# Altium integrated library Molex FFC - FPC Connectors (SMT).IntLib: 638 symbols (part 9 of 20)
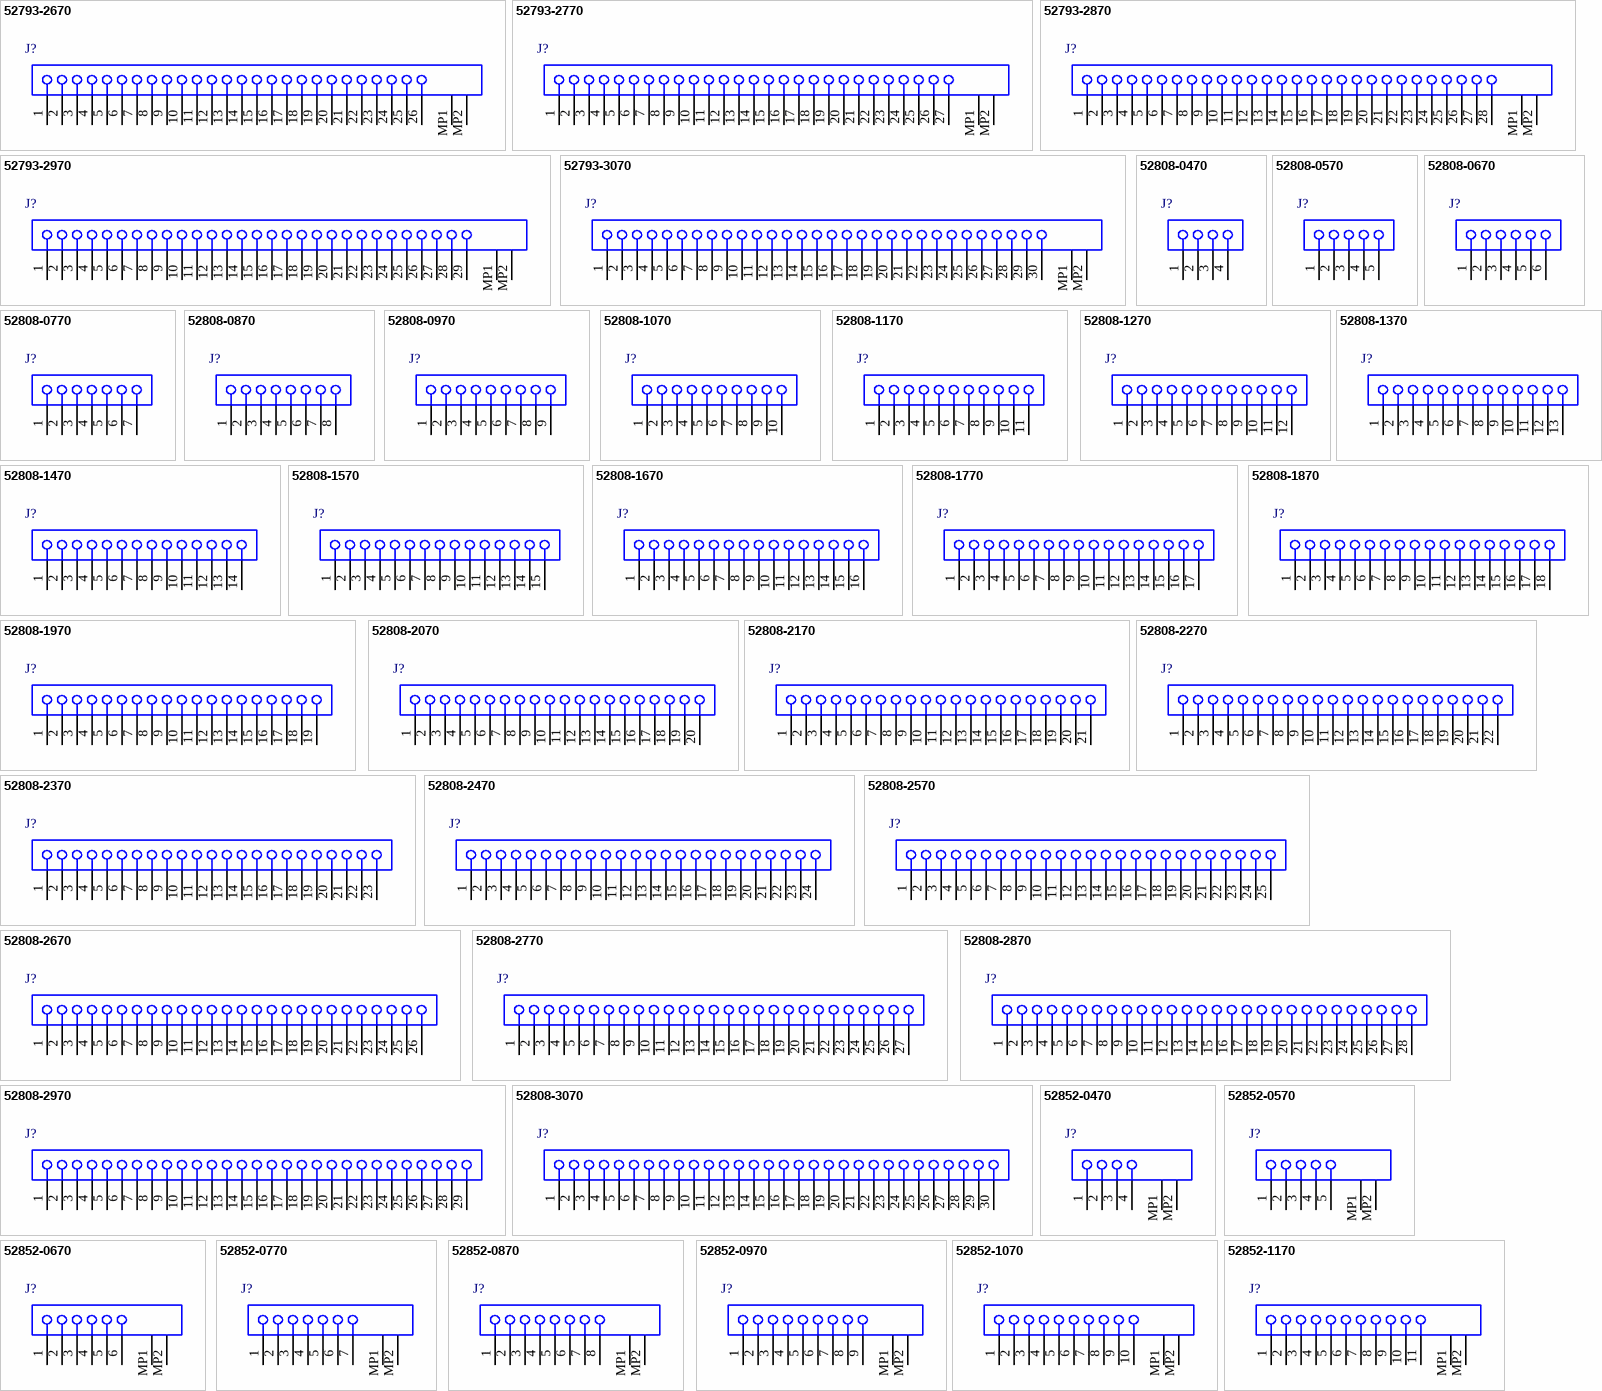
[diagram p29: symbols 52793-2670 to 52852-1170]

## 52808-0570
designator J?
1.0 mm Pitch Easy-On(TM) Type FFC Connector, 5.05 mm Mated Height, Vertical, Non-ZIF, SMT, 5 Circuits, -20 to 80 degC, ELV and RoHS Compliant, Tape and Reel; Manufacturer: Molex; PartNumber: 52808-0570; Circuits (Loaded): 5; Current (Max per Contact): 0.5A; Durability (mating cycles max): 10; Mated Height: 5.05mm; Material - Metal: Phosphor Bronze; Material - Plating Mating: Tin-Bismuth; PCB Locator: No; PCB Retention: None; Pitch - Mating Interface: 1.00mm; Voltage (Max): 125V AC (RMS)/DC; PackageVersion: Rev. B, 01/2014; PackageReference: 52808-0570; PackageDescription: 5-Lead FFC Connector, Pitch 1.0 mm; Circuits (maximum): 5; Contact Position: N/A; Entry Angle: Vertical; Material - Plating Termination: Tin-Bismuth; Number of Rows: 1; Orientation: Vertical; Packing: Tape and Reel; Pitch - Termination Interface: 1.00mm; Polarized to PCB: No; RoHS: TRUE; Stackable: No; Mounting Technology: Surface Mount; ComponentLink1Description: Manufacturer URL; ComponentLink1URL: http://www.molex.com/molex/index.jsp; ComponentLink2Description: Datasheet; ComponentLink2URL: http://www.molex.com/webdocs/datasheets/pdf/en-us/0528080570_FFC_FPC_CONNECTORS.pdf; ComponentLink3Description: Package Specification; ComponentLink3URL: http://www.molex.com/pdm_docs/sd/528080570_sd.pdf
footprint MOLX-52808-0570 (FFC Connector, 5-Leads, Vertical, Pitch 1.0 mm, Mated Height 5.05 mm, SMT)
pins: 1, 2, 3, 4, 5

## 52808-0670
designator J?
1.0 mm Pitch Easy-On(TM) Type FFC Connector, 5.05 mm Mated Height, Vertical, Non-ZIF, SMT, 6 Circuits, -20 to 80 degC, ELV and RoHS Compliant, Tape and Reel; Manufacturer: Molex; PartNumber: 52808-0670; Circuits (Loaded): 6; Current (Max per Contact): 0.5A; Durability (mating cycles max): 10; Mated Height: 5.05mm; Material - Metal: Phosphor Bronze; Material - Plating Mating: Tin-Bismuth; PCB Locator: No; PCB Retention: None; Pitch - Mating Interface: 1.00mm; Voltage (Max): 125V AC (RMS)/DC; PackageVersion: Rev. B, 01/2014; PackageReference: 52808-0670; PackageDescription: 6-Lead FFC Connector, Pitch 1.0 mm; Circuits (maximum): 6; Contact Position: N/A; Entry Angle: Vertical; Material - Plating Termination: Tin-Bismuth; Number of Rows: 1; Orientation: Vertical; Packing: Tape and Reel; Pitch - Termination Interface: 1.00mm; Polarized to PCB: No; RoHS: TRUE; Stackable: No; Mounting Technology: Surface Mount; ComponentLink1Description: Manufacturer URL; ComponentLink1URL: http://www.molex.com/molex/index.jsp; ComponentLink2Description: Datasheet; ComponentLink2URL: http://www.molex.com/webdocs/datasheets/pdf/en-us/0528080670_FFC_FPC_CONNECTORS.pdf; ComponentLink3Description: Package Specification; ComponentLink3URL: http://www.molex.com/pdm_docs/sd/528080670_sd.pdf
footprint MOLX-52808-0670 (FFC Connector, 6-Leads, Vertical, Pitch 1.0 mm, Mated Height 5.05 mm, SMT)
pins: 1, 2, 3, 4, 5, 6

## 52808-0770
designator J?
1.0 mm Pitch Easy-On(TM) Type FFC Connector, 5.05 mm Mated Height, Vertical, Non-ZIF, SMT, 7 Circuits, -20 to 80 degC, ELV and RoHS Compliant, Tape and Reel; Manufacturer: Molex; PartNumber: 52808-0770; Circuits (Loaded): 7; Current (Max per Contact): 0.5A; Durability (mating cycles max): 10; Mated Height: 5.05mm; Material - Metal: Phosphor Bronze; Material - Plating Mating: Tin-Bismuth; PCB Locator: No; PCB Retention: None; Pitch - Mating Interface: 1.00mm; Voltage (Max): 125V AC (RMS)/DC; PackageVersion: Rev. B, 01/2014; PackageReference: 52808-0770; PackageDescription: 7-Lead FFC Connector, Pitch 1.0 mm; Circuits (maximum): 7; Contact Position: N/A; Entry Angle: Vertical; Material - Plating Termination: Tin-Bismuth; Number of Rows: 1; Orientation: Vertical; Packing: Tape and Reel; Pitch - Termination Interface: 1.00mm; Polarized to PCB: No; RoHS: TRUE; Stackable: No; Mounting Technology: Surface Mount; ComponentLink1Description: Manufacturer URL; ComponentLink1URL: http://www.molex.com/molex/index.jsp; ComponentLink2Description: Datasheet; ComponentLink2URL: http://www.molex.com/webdocs/datasheets/pdf/en-us/0528080770_FFC_FPC_CONNECTORS.pdf; ComponentLink3Description: Package Specification; ComponentLink3URL: http://www.molex.com/pdm_docs/sd/528080770_sd.pdf
footprint MOLX-52808-0770 (FFC Connector, 7-Leads, Vertical, Pitch 1.0 mm, Mated Height 5.05 mm, SMT)
pins: 1, 2, 3, 4, 5, 6, 7

## 52808-0870
designator J?
1.0 mm Pitch Easy-On(TM) Type FFC Connector, 5.05 mm Mated Height, Vertical, Non-ZIF, SMT, 8 Circuits, -20 to 80 degC, ELV and RoHS Compliant, Tape and Reel; Manufacturer: Molex; PartNumber: 52808-0870; Circuits (Loaded): 8; Current (Max per Contact): 0.5A; Durability (mating cycles max): 10; Mated Height: 5.05mm; Material - Metal: Phosphor Bronze; Material - Plating Mating: Tin-Bismuth; PCB Locator: No; PCB Retention: None; Pitch - Mating Interface: 1.00mm; Voltage (Max): 125V AC (RMS)/DC; PackageVersion: Rev. B, 01/2014; PackageReference: 52808-0870; PackageDescription: 8-Lead FFC Connector, Pitch 1.0 mm; Circuits (maximum): 8; Contact Position: N/A; Entry Angle: Vertical; Material - Plating Termination: Tin-Bismuth; Number of Rows: 1; Orientation: Vertical; Packing: Tape and Reel; Pitch - Termination Interface: 1.00mm; Polarized to PCB: No; RoHS: TRUE; Stackable: No; Mounting Technology: Surface Mount; ComponentLink1Description: Manufacturer URL; ComponentLink1URL: http://www.molex.com/molex/index.jsp; ComponentLink2Description: Datasheet; ComponentLink2URL: http://www.molex.com/webdocs/datasheets/pdf/en-us/0528080870_FFC_FPC_CONNECTORS.pdf; ComponentLink3Description: Package Specification; ComponentLink3URL: http://www.molex.com/pdm_docs/sd/528080870_sd.pdf
footprint MOLX-52808-0870 (FFC Connector, 8-Leads, Vertical, Pitch 1.0 mm, Mated Height 5.05 mm, SMT)
pins: 1, 2, 3, 4, 5, 6, 7, 8

## 52808-0970
designator J?
1.0 mm Pitch Easy-On(TM) Type FFC Connector, 5.05 mm Mated Height, Vertical, Non-ZIF, SMT, 9 Circuits, -20 to 80 degC, ELV and RoHS Compliant, Tape and Reel; Manufacturer: Molex; PartNumber: 52808-0970; Circuits (Loaded): 9; Current (Max per Contact): 0.5A; Durability (mating cycles max): 10; Mated Height: 5.05mm; Material - Metal: Phosphor Bronze; Material - Plating Mating: Tin-Bismuth; PCB Locator: No; PCB Retention: None; Pitch - Mating Interface: 1.00mm; Voltage (Max): 125V AC (RMS)/DC; PackageVersion: Rev. B, 01/2014; PackageReference: 52808-0970; PackageDescription: 9-Lead FFC Connector, Pitch 1.0 mm; Circuits (maximum): 9; Contact Position: N/A; Entry Angle: Vertical; Material - Plating Termination: Tin-Bismuth; Number of Rows: 1; Orientation: Vertical; Packing: Tape and Reel; Pitch - Termination Interface: 1.00mm; Polarized to PCB: No; RoHS: TRUE; Stackable: No; Mounting Technology: Surface Mount; ComponentLink1Description: Manufacturer URL; ComponentLink1URL: http://www.molex.com/molex/index.jsp; ComponentLink2Description: Datasheet; ComponentLink2URL: http://www.molex.com/webdocs/datasheets/pdf/en-us/0528080970_FFC_FPC_CONNECTORS.pdf; ComponentLink3Description: Package Specification; ComponentLink3URL: http://www.molex.com/pdm_docs/sd/528080970_sd.pdf
footprint MOLX-52808-0970 (FFC Connector, 9-Leads, Vertical, Pitch 1.0 mm, Mated Height 5.05 mm, SMT)
pins: 1, 2, 3, 4, 5, 6, 7, 8, 9

## 52808-1070
designator J?
1.0 mm Pitch Easy-On(TM) Type FFC Connector, 5.05 mm Mated Height, Vertical, Non-ZIF, SMT, 10 Circuits, -20 to 80 degC, ELV and RoHS Compliant, Tape and Reel; Manufacturer: Molex; PartNumber: 52808-1070; Circuits (Loaded): 10; Current (Max per Contact): 0.5A; Mated Height: 5.05mm; Material - Metal: Phosphor Bronze; Material - Plating Mating: Tin-Bismuth; PCB Locator: No; PCB Retention: None; Pitch - Mating Interface: 1.00mm; Voltage (Max): 125V AC (RMS)/DC; PackageVersion: Rev. B, 01/2014; PackageReference: 52808-1070; PackageDescription: 10-Lead FFC Connector, Pitch 1.0 mm; Circuits (maximum): 10; Contact Position: N/A; Durability (mating cycles max): 10; Entry Angle: Vertical; Material - Plating Termination: Tin-Bismuth; Number of Rows: 1; Orientation: Vertical; Packing: Tape and Reel; Pitch - Termination Interface: 1.00mm; Polarized to PCB: No; RoHS: TRUE; Stackable: No; Mounting Technology: Surface Mount; ComponentLink1Description: Manufacturer URL; ComponentLink1URL: http://www.molex.com/molex/index.jsp; ComponentLink2Description: Datasheet; ComponentLink2URL: http://www.molex.com/webdocs/datasheets/pdf/en-us/0528081070_FFC_FPC_CONNECTORS.pdf; ComponentLink3Description: Package Specification; ComponentLink3URL: http://www.molex.com/pdm_docs/sd/528081070_sd.pdf
footprint MOLX-52808-1070 (FFC Connector, 10-Leads, Vertical, Pitch 1.0 mm, Mated Height 5.05 mm, SMT)
pins: 1, 2, 3, 4, 5, 6, 7, 8, 9, 10

## 52808-1170
designator J?
1.0 mm Pitch Easy-On(TM) Type FFC Connector, 5.05 mm Mated Height, Vertical, Non-ZIF, SMT, 11 Circuits, -20 to 80 degC, ELV and RoHS Compliant, Tape and Reel; Manufacturer: Molex; PartNumber: 52808-1170; Circuits (Loaded): 11; Current (Max per Contact): 0.5A; Durability (mating cycles max): 10; Mated Height: 5.05mm; Material - Metal: Phosphor Bronze; Material - Plating Mating: Tin-Bismuth; PCB Locator: No; PCB Retention: None; Pitch - Mating Interface: 1.00mm; Voltage (Max): 125V AC (RMS)/DC; PackageVersion: Rev. B, 01/2014; PackageReference: 52808-1170; PackageDescription: 11-Lead FFC Connector, Pitch 1.0 mm; Circuits (maximum): 11; Contact Position: N/A; Entry Angle: Vertical; Material - Plating Termination: Tin-Bismuth; Number of Rows: 1; Orientation: Vertical; Packing: Tape and Reel; Pitch - Termination Interface: 1.00mm; Polarized to PCB: No; RoHS: TRUE; Stackable: No; Mounting Technology: Surface Mount; ComponentLink1Description: Manufacturer URL; ComponentLink1URL: http://www.molex.com/molex/index.jsp; ComponentLink2Description: Datasheet; ComponentLink2URL: http://www.molex.com/webdocs/datasheets/pdf/en-us/0528081170_FFC_FPC_CONNECTORS.pdf; ComponentLink3Description: Package Specification; ComponentLink3URL: http://www.molex.com/pdm_docs/sd/528081170_sd.pdf
footprint MOLX-52808-1170 (FFC Connector, 11-Leads, Vertical, Pitch 1.0 mm, Mated Height 5.05 mm, SMT)
pins: 1, 2, 3, 4, 5, 6, 7, 8, 9, 10, 11

## 52808-1270
designator J?
1.0 mm Pitch Easy-On(TM) Type FFC Connector, 5.05 mm Mated Height, Vertical, Non-ZIF, SMT, 12 Circuits, -20 to 80 degC, ELV and RoHS Compliant, Tape and Reel; Manufacturer: Molex; PartNumber: 52808-1270; Circuits (Loaded): 12; Current (Max per Contact): 0.5A; Durability (mating cycles max): 10; Mated Height: 5.05mm; Material - Metal: Phosphor Bronze; Material - Plating Mating: Tin-Bismuth; PCB Locator: No; PCB Retention: None; Pitch - Mating Interface: 1.00mm; Voltage (Max): 125V AC (RMS)/DC; PackageVersion: Rev. B, 01/2014; PackageReference: 52808-1270; PackageDescription: 12-Lead FFC Connector, Pitch 1.0 mm; Circuits (maximum): 12; Contact Position: N/A; Entry Angle: Vertical; Material - Plating Termination: Tin-Bismuth; Number of Rows: 1; Orientation: Vertical; Packing: Tape and Reel; Pitch - Termination Interface: 1.00mm; Polarized to PCB: No; RoHS: TRUE; Stackable: No; Mounting Technology: Surface Mount; ComponentLink1Description: Manufacturer URL; ComponentLink1URL: http://www.molex.com/molex/index.jsp; ComponentLink2Description: Datasheet; ComponentLink2URL: http://www.molex.com/webdocs/datasheets/pdf/en-us/0528081170_FFC_FPC_CONNECTORS.pdf; ComponentLink3Description: Package Specification; ComponentLink3URL: http://www.molex.com/pdm_docs/sd/528081270_sd.pdf
footprint MOLX-52808-1270 (FFC Connector, 12-Leads, Vertical, Pitch 1.0 mm, Mated Height 5.05 mm, SMT)
pins: 1, 2, 3, 4, 5, 6, 7, 8, 9, 10, 11, 12

## 52808-1370
designator J?
1.0 mm Pitch Easy-On(TM) Type FFC Connector, 5.05 mm Mated Height, Vertical, Non-ZIF, SMT, 13 Circuits, -20 to 80 degC, ELV and RoHS Compliant, Tape and Reel; Manufacturer: Molex; PartNumber: 52808-1370; Circuits (Loaded): 13; Current (Max per Contact): 0.5A; Durability (mating cycles max): 10; Mated Height: 5.05mm; Material - Metal: Phosphor Bronze; Material - Plating Mating: Tin-Bismuth; PCB Locator: No; PCB Retention: None; Pitch - Mating Interface: 1.00mm; Voltage (Max): 125V AC (RMS)/DC; PackageVersion: Rev. B, 01/2014; PackageReference: 52808-1370; PackageDescription: 13-Lead FFC Connector, Pitch 1.0 mm; Circuits (maximum): 13; Contact Position: N/A; Entry Angle: Vertical; Material - Plating Termination: Tin-Bismuth; Number of Rows: 1; Orientation: Vertical; Packing: Tape and Reel; Pitch - Termination Interface: 1.00mm; Polarized to PCB: No; RoHS: TRUE; Stackable: No; Mounting Technology: Surface Mount; ComponentLink1Description: Manufacturer URL; ComponentLink1URL: http://www.molex.com/molex/index.jsp; ComponentLink2Description: Datasheet; ComponentLink2URL: http://www.molex.com/webdocs/datasheets/pdf/en-us/0528081370_FFC_FPC_CONNECTORS.pdf; ComponentLink3Description: Package Specification; ComponentLink3URL: http://www.molex.com/pdm_docs/sd/528081370_sd.pdf
footprint MOLX-52808-1370 (FFC Connector, 13-Leads, Vertical, Pitch 1.0 mm, Mated Height 5.05 mm, SMT)
pins: 1, 2, 3, 4, 5, 6, 7, 8, 9, 10, 11, 12, 13

## 52808-1470
designator J?
1.0 mm Pitch Easy-On(TM) Type FFC Connector, 5.05 mm Mated Height, Vertical, Non-ZIF, SMT, 14 Circuits, -20 to 80 degC, ELV and RoHS Compliant, Tape and Reel; Manufacturer: Molex; PartNumber: 52808-1470; Circuits (Loaded): 14; Current (Max per Contact): 0.5A; Durability (mating cycles max): 10; Mated Height: 5.05mm; Material - Metal: Phosphor Bronze; Material - Plating Mating: Tin-Bismuth; PCB Locator: No; PCB Retention: None; Pitch - Mating Interface: 1.00mm; Voltage (Max): 125V AC (RMS)/DC; PackageVersion: Rev. B, 01/2014; PackageReference: 52808-1470; PackageDescription: 14-Lead FFC Connector, Pitch 1.0 mm; Circuits (maximum): 14; Contact Position: N/A; Entry Angle: Vertical; Material - Plating Termination: Tin-Bismuth; Number of Rows: 1; Orientation: Vertical; Packing: Tape and Reel; Pitch - Termination Interface: 1.00mm; Polarized to PCB: No; RoHS: TRUE; Stackable: No; Mounting Technology: Surface Mount; ComponentLink1Description: Manufacturer URL; ComponentLink1URL: http://www.molex.com/molex/index.jsp; ComponentLink2Description: Datasheet; ComponentLink2URL: http://www.molex.com/webdocs/datasheets/pdf/en-us/0528081470_FFC_FPC_CONNECTORS.pdf; ComponentLink3Description: Package Specification; ComponentLink3URL: http://www.molex.com/pdm_docs/sd/528081470_sd.pdf
footprint MOLX-52808-1470 (FFC Connector, 14-Leads, Vertical, Pitch 1.0 mm, Mated Height 5.05 mm, SMT)
pins: 1, 2, 3, 4, 5, 6, 7, 8, 9, 10, 11, 12, 13, 14

## 52808-1570
designator J?
1.0 mm Pitch Easy-On(TM) Type FFC Connector, 5.05 mm Mated Height, Vertical, Non-ZIF, SMT, 15 Circuits, -20 to 80 degC, ELV and RoHS Compliant, Tape and Reel; Manufacturer: Molex; PartNumber: 52808-1570; Circuits (Loaded): 15; Current (Max per Contact): 0.5A; Durability (mating cycles max): 10; Mated Height: 5.05mm; Material - Metal: Phosphor Bronze; Material - Plating Mating: Tin-Bismuth; PCB Locator: No; PCB Retention: None; Pitch - Mating Interface: 1.00mm; Voltage (Max): 125V AC (RMS)/DC; PackageVersion: Rev. B, 01/2014; PackageReference: 52808-1570; PackageDescription: 15-Lead FFC Connector, Pitch 1.0 mm; Circuits (maximum): 15; Contact Position: N/A; Entry Angle: Vertical; Material - Plating Termination: Tin-Bismuth; Number of Rows: 1; Orientation: Vertical; Packing: Tape and Reel; Pitch - Termination Interface: 1.00mm; Polarized to PCB: No; RoHS: TRUE; Stackable: No; Mounting Technology: Surface Mount; ComponentLink1Description: Manufacturer URL; ComponentLink1URL: http://www.molex.com/molex/index.jsp; ComponentLink2Description: Datasheet; ComponentLink2URL: http://www.molex.com/webdocs/datasheets/pdf/en-us/0528081570_FFC_FPC_CONNECTORS.pdf; ComponentLink3Description: Package Specification; ComponentLink3URL: http://www.molex.com/pdm_docs/sd/528081570_sd.pdf
footprint MOLX-52808-1570 (FFC Connector, 15-Leads, Vertical, Pitch 1.0 mm, Mated Height 5.05 mm, SMT)
pins: 1, 2, 3, 4, 5, 6, 7, 8, 9, 10, 11, 12, 13, 14, 15

## 52808-1670
designator J?
1.0 mm Pitch Easy-On(TM) Type FFC Connector, 5.05 mm Mated Height, Vertical, Non-ZIF, SMT, 16 Circuits, -20 to 80 degC, ELV and RoHS Compliant, Tape and Reel; Manufacturer: Molex; PartNumber: 52808-1670; Circuits (Loaded): 16; Current (Max per Contact): 0.5A; Durability (mating cycles max): 10; Mated Height: 5.05mm; Material - Metal: Phosphor Bronze; Material - Plating Mating: Tin-Bismuth; PCB Locator: No; PCB Retention: None; Pitch - Mating Interface: 1.00mm; Voltage (Max): 125V AC (RMS)/DC; PackageVersion: Rev. B, 01/2014; PackageReference: 52808-1670; PackageDescription: 16-Lead FFC Connector, Pitch 1.0 mm; Circuits (maximum): 16; Contact Position: N/A; Entry Angle: Vertical; Material - Plating Termination: Tin-Bismuth; Number of Rows: 1; Orientation: Vertical; Packing: Tape and Reel; Pitch - Termination Interface: 1.00mm; Polarized to PCB: No; RoHS: TRUE; Stackable: No; Mounting Technology: Surface Mount; ComponentLink1Description: Manufacturer URL; ComponentLink1URL: http://www.molex.com/molex/index.jsp; ComponentLink2Description: Datasheet; ComponentLink2URL: http://www.molex.com/webdocs/datasheets/pdf/en-us/0528081670_FFC_FPC_CONNECTORS.pdf; ComponentLink3Description: Package Specification; ComponentLink3URL: http://www.molex.com/pdm_docs/sd/528081670_sd.pdf
footprint MOLX-52808-1670 (FFC Connector, 16-Leads, Vertical, Pitch 1.0 mm, Mated Height 5.05 mm, SMT)
pins: 1, 2, 3, 4, 5, 6, 7, 8, 9, 10, 11, 12, 13, 14, 15, 16

## 52808-1770
designator J?
1.0 mm Pitch Easy-On(TM) Type FFC Connector, 5.05 mm Mated Height, Vertical, Non-ZIF, SMT, 17 Circuits, -20 to 80 degC, ELV and RoHS Compliant, Tape and Reel; Manufacturer: Molex; PartNumber: 52808-1770; Circuits (Loaded): 17; Current (Max per Contact): 0.5A; Durability (mating cycles max): 10; Mated Height: 5.05mm; Material - Metal: Phosphor Bronze; Material - Plating Mating: Tin-Bismuth; PCB Locator: No; PCB Retention: None; Pitch - Mating Interface: 1.00mm; Voltage (Max): 125V AC (RMS)/DC; PackageVersion: Rev. B, 01/2014; PackageReference: 52808-1770; PackageDescription: 17-Lead FFC Connector, Pitch 1.0 mm; Circuits (maximum): 17; Contact Position: N/A; Entry Angle: Vertical; Material - Plating Termination: Tin-Bismuth; Number of Rows: 1; Orientation: Vertical; Packing: Tape and Reel; Pitch - Termination Interface: 1.00mm; Polarized to PCB: No; RoHS: TRUE; Stackable: No; Mounting Technology: Surface Mount; ComponentLink1Description: Manufacturer URL; ComponentLink1URL: http://www.molex.com/molex/index.jsp; ComponentLink2Description: Datasheet; ComponentLink2URL: http://www.molex.com/webdocs/datasheets/pdf/en-us/0528081770_FFC_FPC_CONNECTORS.pdf; ComponentLink3Description: Package Specification; ComponentLink3URL: http://www.molex.com/pdm_docs/sd/528081770_sd.pdf
footprint MOLX-52808-1770 (FFC Connector, 17-Leads, Vertical, Pitch 1.0 mm, Mated Height 5.05 mm, SMT)
pins: 1, 2, 3, 4, 5, 6, 7, 8, 9, 10, 11, 12, 13, 14, 15, 16, 17

## 52808-1870
designator J?
1.0 mm Pitch Easy-On(TM) Type FFC Connector, 5.05 mm Mated Height, Vertical, Non-ZIF, SMT, 18 Circuits, -20 to 80 degC, ELV and RoHS Compliant, Tape and Reel; Manufacturer: Molex; PartNumber: 52808-1870; Circuits (Loaded): 18; Current (Max per Contact): 0.5A; Durability (mating cycles max): 10; Mated Height: 5.05mm; Material - Metal: Phosphor Bronze; Material - Plating Mating: Tin-Bismuth; PCB Locator: No; PCB Retention: None; Pitch - Mating Interface: 1.00mm; Voltage (Max): 125V AC (RMS)/DC; PackageVersion: Rev. B, 01/2014; PackageReference: 52808-1870; PackageDescription: 18-Lead FFC Connector, Pitch 1.0 mm; Circuits (maximum): 18; Contact Position: N/A; Entry Angle: Vertical; Material - Plating Termination: Tin-Bismuth; Number of Rows: 1; Orientation: Vertical; Packing: Tape and Reel; Pitch - Termination Interface: 1.00mm; Polarized to PCB: No; RoHS: TRUE; Stackable: No; Mounting Technology: Surface Mount; ComponentLink1Description: Manufacturer URL; ComponentLink1URL: http://www.molex.com/molex/index.jsp; ComponentLink2Description: Datasheet; ComponentLink2URL: http://www.molex.com/webdocs/datasheets/pdf/en-us/0528081870_FFC_FPC_CONNECTORS.pdf; ComponentLink3Description: Package Specification; ComponentLink3URL: http://www.molex.com/pdm_docs/sd/528081870_sd.pdf
footprint MOLX-52808-1870 (FFC Connector, 18-Leads, Vertical, Pitch 1.0 mm, Mated Height 5.05 mm, SMT)
pins: 1, 2, 3, 4, 5, 6, 7, 8, 9, 10, 11, 12, 13, 14, 15, 16, 17, 18

## 52808-1970
designator J?
1.0 mm Pitch Easy-On(TM) Type FFC Connector, 5.05 mm Mated Height, Vertical, Non-ZIF, SMT, 19 Circuits, -20 to 80 degC, ELV and RoHS Compliant, Tape and Reel; Manufacturer: Molex; PartNumber: 52808-1970; Circuits (Loaded): 19; Current (Max per Contact): 0.5A; Durability (mating cycles max): 10; Mated Height: 5.05mm; Material - Metal: Phosphor Bronze; Material - Plating Mating: Tin-Bismuth; PCB Locator: No; PCB Retention: None; Pitch - Mating Interface: 1.00mm; Voltage (Max): 125V AC (RMS)/DC; PackageVersion: Rev. B, 01/2014; PackageReference: 52808-1970; PackageDescription: 19-Lead FFC Connector, Pitch 1.0 mm; Circuits (maximum): 19; Contact Position: N/A; Entry Angle: Vertical; Material - Plating Termination: Tin-Bismuth; Number of Rows: 1; Orientation: Vertical; Packing: Tape and Reel; Pitch - Termination Interface: 1.00mm; Polarized to PCB: No; RoHS: TRUE; Stackable: No; Mounting Technology: Surface Mount; ComponentLink1Description: Manufacturer URL; ComponentLink1URL: http://www.molex.com/molex/index.jsp; ComponentLink2Description: Datasheet; ComponentLink2URL: http://www.molex.com/webdocs/datasheets/pdf/en-us/0528081970_FFC_FPC_CONNECTORS.pdf; ComponentLink3Description: Package Specification; ComponentLink3URL: http://www.molex.com/pdm_docs/sd/528081970_sd.pdf
footprint MOLX-52808-1970 (FFC Connector, 19-Leads, Vertical, Pitch 1.0 mm, Mated Height 5.05 mm, SMT)
pins: 1, 2, 3, 4, 5, 6, 7, 8, 9, 10, 11, 12, 13, 14, 15, 16, 17, 18, 19

## 52808-2070
designator J?
1.0 mm Pitch Easy-On(TM) Type FFC Connector, 5.05 mm Mated Height, Vertical, Non-ZIF, SMT, 20 Circuits, -20 to 80 degC, ELV and RoHS Compliant, Tape and Reel; Manufacturer: Molex; PartNumber: 52808-2070; Circuits (Loaded): 20; Current (Max per Contact): 0.5A; Durability (mating cycles max): 10; Mated Height: 5.05mm; Material - Metal: Phosphor Bronze; Material - Plating Mating: Tin-Bismuth; PCB Locator: No; PCB Retention: None; Pitch - Mating Interface: 1.00mm; Voltage (Max): 125V AC (RMS)/DC; PackageVersion: Rev. B, 01/2014; PackageReference: 52808-2070; PackageDescription: 20-Lead FFC Connector, Pitch 1.0 mm; Circuits (maximum): 20; Contact Position: N/A; Entry Angle: Vertical; Material - Plating Termination: Tin-Bismuth; Number of Rows: 1; Orientation: Vertical; Packing: Tape and Reel; Pitch - Termination Interface: 1.00mm; Polarized to PCB: No; RoHS: TRUE; Stackable: No; Mounting Technology: Surface Mount; ComponentLink1Description: Manufacturer URL; ComponentLink1URL: http://www.molex.com/molex/index.jsp; ComponentLink2Description: Datasheet; ComponentLink2URL: http://www.molex.com/webdocs/datasheets/pdf/en-us/0528082070_FFC_FPC_CONNECTORS.pdf; ComponentLink3Description: Package Specification; ComponentLink3URL: http://www.molex.com/pdm_docs/sd/528082070_sd.pdf
footprint MOLX-52808-2070 (FFC Connector, 20-Leads, Vertical, Pitch 1.0 mm, Mated Height 5.05 mm, SMT)
pins: 1, 2, 3, 4, 5, 6, 7, 8, 9, 10, 11, 12, 13, 14, 15, 16, 17, 18, 19, 20

## 52808-2170
designator J?
1.0 mm Pitch Easy-On(TM) Type FFC Connector, 5.05 mm Mated Height, Vertical, Non-ZIF, SMT, 21 Circuits, -20 to 80 degC, ELV and RoHS Compliant, Tape and Reel; Manufacturer: Molex; PartNumber: 52808-2170; Circuits (Loaded): 21; Current (Max per Contact): 0.5A; Durability (mating cycles max): 10; Mated Height: 5.05mm; Material - Metal: Phosphor Bronze; Material - Plating Mating: Tin-Bismuth; PCB Locator: No; PCB Retention: None; Pitch - Mating Interface: 1.00mm; Voltage (Max): 125V AC (RMS)/DC; PackageVersion: Rev. B, 01/2014; PackageReference: 52808-2170; PackageDescription: 21-Lead FFC Connector, Pitch 1.0 mm; Circuits (maximum): 21; Contact Position: N/A; Entry Angle: Vertical; Material - Plating Termination: Tin-Bismuth; Number of Rows: 1; Orientation: Vertical; Packing: Tape and Reel; Pitch - Termination Interface: 1.00mm; Polarized to PCB: No; RoHS: TRUE; Stackable: No; Mounting Technology: Surface Mount; ComponentLink1Description: Manufacturer URL; ComponentLink1URL: http://www.molex.com/molex/index.jsp; ComponentLink2Description: Datasheet; ComponentLink2URL: http://www.molex.com/webdocs/datasheets/pdf/en-us/0528082170_FFC_FPC_CONNECTORS.pdf; ComponentLink3Description: Package Specification; ComponentLink3URL: http://www.molex.com/pdm_docs/sd/528082170_sd.pdf
footprint MOLX-52808-2170 (FFC Connector, 21-Leads, Vertical, Pitch 1.0 mm, Mated Height 5.05 mm, SMT)
pins: 1, 2, 3, 4, 5, 6, 7, 8, 9, 10, 11, 12, 13, 14, 15, 16, 17, 18, 19, 20, 21

## 52808-2270
designator J?
1.0 mm Pitch Easy-On(TM) Type FFC Connector, 5.05 mm Mated Height, Vertical, Non-ZIF, SMT, 22 Circuits, -20 to 80 degC, ELV and RoHS Compliant, Tape and Reel; Manufacturer: Molex; PartNumber: 52808-2270; Circuits (Loaded): 22; Current (Max per Contact): 0.5A; Durability (mating cycles max): 10; Mated Height: 5.05mm; Material - Metal: Phosphor Bronze; Material - Plating Mating: Tin-Bismuth; PCB Locator: No; PCB Retention: None; Pitch - Mating Interface: 1.00mm; Voltage (Max): 125V AC (RMS)/DC; PackageVersion: Rev. B, 01/2014; PackageReference: 52808-2270; PackageDescription: 22-Lead FFC Connector, Pitch 1.0 mm; Circuits (maximum): 22; Contact Position: N/A; Entry Angle: Vertical; Material - Plating Termination: Tin-Bismuth; Number of Rows: 1; Orientation: Vertical; Packing: Tape and Reel; Pitch - Termination Interface: 1.00mm; Polarized to PCB: No; RoHS: TRUE; Stackable: No; Mounting Technology: Surface Mount; ComponentLink1Description: Manufacturer URL; ComponentLink1URL: http://www.molex.com/molex/index.jsp; ComponentLink2Description: Datasheet; ComponentLink2URL: http://www.molex.com/webdocs/datasheets/pdf/en-us/0528082270_FFC_FPC_CONNECTORS.pdf; ComponentLink3Description: Package Specification; ComponentLink3URL: http://www.molex.com/pdm_docs/sd/528082270_sd.pdf
footprint MOLX-52808-2270 (FFC Connector, 22-Leads, Vertical, Pitch 1.0 mm, Mated Height 5.05 mm, SMT)
pins: 1, 2, 3, 4, 5, 6, 7, 8, 9, 10, 11, 12, 13, 14, 15, 16, 17, 18, 19, 20, 21, 22

## 52808-2370
designator J?
1.0 mm Pitch Easy-On(TM) Type FFC Connector, 5.05 mm Mated Height, Vertical, Non-ZIF, SMT, 23 Circuits, -20 to 80 degC, ELV and RoHS Compliant, Tape and Reel; Manufacturer: Molex; PartNumber: 52808-2370; Circuits (Loaded): 23; Current (Max per Contact): 0.5A; Durability (mating cycles max): 10; Mated Height: 5.05mm; Material - Metal: Phosphor Bronze; Material - Plating Mating: Tin-Bismuth; PCB Locator: No; PCB Retention: None; Pitch - Mating Interface: 1.00mm; Voltage (Max): 125V AC (RMS)/DC; PackageVersion: Rev. B, 01/2014; PackageReference: 52808-2370; PackageDescription: 23-Lead FFC Connector, Pitch 1.0 mm; Circuits (maximum): 23; Contact Position: N/A; Entry Angle: Vertical; Material - Plating Termination: Tin-Bismuth; Number of Rows: 1; Orientation: Vertical; Packing: Tape and Reel; Pitch - Termination Interface: 1.00mm; Polarized to PCB: No; RoHS: TRUE; Stackable: No; Mounting Technology: Surface Mount; ComponentLink1Description: Manufacturer URL; ComponentLink1URL: http://www.molex.com/molex/index.jsp; ComponentLink2Description: Datasheet; ComponentLink2URL: http://www.molex.com/webdocs/datasheets/pdf/en-us/0528082370_FFC_FPC_CONNECTORS.pdf; ComponentLink3Description: Package Specification; ComponentLink3URL: http://www.molex.com/pdm_docs/sd/528082370_sd.pdf
footprint MOLX-52808-2370 (FFC Connector, 23-Leads, Vertical, Pitch 1.0 mm, Mated Height 5.05 mm, SMT)
pins: 1, 2, 3, 4, 5, 6, 7, 8, 9, 10, 11, 12, 13, 14, 15, 16, 17, 18, 19, 20, 21, 22, 23

## 52808-2470
designator J?
1.0 mm Pitch Easy-On(TM) Type FFC Connector, 5.05 mm Mated Height, Vertical, Non-ZIF, SMT, 24 Circuits, -20 to 80 degC, ELV and RoHS Compliant, Tape and Reel; Manufacturer: Molex; PartNumber: 52808-2470; Circuits (Loaded): 24; Current (Max per Contact): 0.5A; Durability (mating cycles max): 10; Mated Height: 5.05mm; Material - Metal: Phosphor Bronze; Material - Plating Mating: Tin-Bismuth; PCB Locator: No; PCB Retention: None; Pitch - Mating Interface: 1.00mm; Voltage (Max): 125V AC (RMS)/DC; PackageVersion: Rev. B, 01/2014; PackageReference: 52808-2470; PackageDescription: 24-Lead FFC Connector, Pitch 1.0 mm; Circuits (maximum): 24; Contact Position: N/A; Entry Angle: Vertical; Material - Plating Termination: Tin-Bismuth; Number of Rows: 1; Orientation: Vertical; Packing: Tape and Reel; Pitch - Termination Interface: 1.00mm; Polarized to PCB: No; RoHS: TRUE; Stackable: No; Mounting Technology: Surface Mount; ComponentLink1Description: Manufacturer URL; ComponentLink1URL: http://www.molex.com/molex/index.jsp; ComponentLink2Description: Datasheet; ComponentLink2URL: http://www.molex.com/webdocs/datasheets/pdf/en-us/0528082470_FFC_FPC_CONNECTORS.pdf; ComponentLink3Description: Package Specification; ComponentLink3URL: http://www.molex.com/pdm_docs/sd/528082470_sd.pdf
footprint MOLX-52808-2470 (FFC Connector, 24-Leads, Vertical, Pitch 1.0 mm, Mated Height 5.05 mm, SMT)
pins: 1, 2, 3, 4, 5, 6, 7, 8, 9, 10, 11, 12, 13, 14, 15, 16, 17, 18, 19, 20, 21, 22, 23, 24

## 52808-2570
designator J?
1.0 mm Pitch Easy-On(TM) Type FFC Connector, 5.05 mm Mated Height, Vertical, Non-ZIF, SMT, 25 Circuits, -20 to 80 degC, ELV and RoHS Compliant, Tape and Reel; Manufacturer: Molex; PartNumber: 52808-2570; Circuits (Loaded): 25; Current (Max per Contact): 0.5A; Durability (mating cycles max): 10; Mated Height: 5.05mm; Material - Metal: Phosphor Bronze; Material - Plating Mating: Tin-Bismuth; PCB Locator: No; PCB Retention: None; Pitch - Mating Interface: 1.00mm; Voltage (Max): 125V AC (RMS)/DC; PackageVersion: Rev. B, 01/2014; PackageReference: 52808-2570; PackageDescription: 25-Lead FFC Connector, Pitch 1.0 mm; Circuits (maximum): 25; Contact Position: N/A; Entry Angle: Vertical; Material - Plating Termination: Tin-Bismuth; Number of Rows: 1; Orientation: Vertical; Packing: Tape and Reel; Pitch - Termination Interface: 1.00mm; Polarized to PCB: No; RoHS: TRUE; Stackable: No; Mounting Technology: Surface Mount; ComponentLink1Description: Manufacturer URL; ComponentLink1URL: http://www.molex.com/molex/index.jsp; ComponentLink2Description: Datasheet; ComponentLink2URL: http://www.molex.com/webdocs/datasheets/pdf/en-us/0528082570_FFC_FPC_CONNECTORS.pdf; ComponentLink3Description: Package Specification; ComponentLink3URL: http://www.molex.com/pdm_docs/sd/528082570_sd.pdf
footprint MOLX-52808-2570 (FFC Connector, 25-Leads, Vertical, Pitch 1.0 mm, Mated Height 5.05 mm, SMT)
pins: 1, 2, 3, 4, 5, 6, 7, 8, 9, 10, 11, 12, 13, 14, 15, 16, 17, 18, 19, 20, 21, 22, 23, 24, 25

## 52808-2670
designator J?
1.0 mm Pitch Easy-On(TM) Type FFC Connector, 5.05 mm Mated Height, Vertical, Non-ZIF, SMT, 26 Circuits, -20 to 80 degC, ELV and RoHS Compliant, Tape and Reel; Manufacturer: Molex; PartNumber: 52808-2670; Circuits (Loaded): 26; Current (Max per Contact): 0.5A; Durability (mating cycles max): 10; Mated Height: 5.05mm; Material - Metal: Phosphor Bronze; Material - Plating Mating: Tin-Bismuth; PCB Locator: No; PCB Retention: None; Pitch - Mating Interface: 1.00mm; Voltage (Max): 125V AC (RMS)/DC; PackageVersion: Rev. B, 01/2014; PackageReference: 52808-2670; PackageDescription: 26-Lead FFC Connector, Pitch 1.0 mm; Circuits (maximum): 26; Contact Position: N/A; Entry Angle: Vertical; Material - Plating Termination: Tin-Bismuth; Number of Rows: 1; Orientation: Vertical; Packing: Tape and Reel; Pitch - Termination Interface: 1.00mm; Polarized to PCB: No; RoHS: TRUE; Stackable: No; Mounting Technology: Surface Mount; ComponentLink1Description: Manufacturer URL; ComponentLink1URL: http://www.molex.com/molex/index.jsp; ComponentLink2Description: Datasheet; ComponentLink2URL: http://www.molex.com/webdocs/datasheets/pdf/en-us/0528082670_FFC_FPC_CONNECTORS.pdf; ComponentLink3Description: Package Specification; ComponentLink3URL: http://www.molex.com/pdm_docs/sd/528082670_sd.pdf
footprint MOLX-52808-2670 (FFC Connector, 26-Leads, Vertical, Pitch 1.0 mm, Mated Height 5.05 mm, SMT)
pins: 1, 2, 3, 4, 5, 6, 7, 8, 9, 10, 11, 12, 13, 14, 15, 16, 17, 18, 19, 20, 21, 22, 23, 24, 25, 26

## 52808-2770
designator J?
1.0 mm Pitch Easy-On(TM) Type FFC Connector, 5.05 mm Mated Height, Vertical, Non-ZIF, SMT, 27 Circuits, -20 to 80 degC, ELV and RoHS Compliant, Tape and Reel; Manufacturer: Molex; PartNumber: 52808-2770; Circuits (Loaded): 27; Current (Max per Contact): 0.5A; Durability (mating cycles max): 10; Mated Height: 5.05mm; Material - Metal: Phosphor Bronze; Material - Plating Mating: Tin-Bismuth; PCB Locator: No; PCB Retention: None; Pitch - Mating Interface: 1.00mm; Voltage (Max): 125V AC (RMS)/DC; PackageVersion: Rev. B, 01/2014; PackageReference: 52808-2770; PackageDescription: 27-Lead FFC Connector, Pitch 1.0 mm; Circuits (maximum): 27; Contact Position: N/A; Entry Angle: Vertical; Material - Plating Termination: Tin-Bismuth; Number of Rows: 1; Orientation: Vertical; Packing: Tape and Reel; Pitch - Termination Interface: 1.00mm; Polarized to PCB: No; RoHS: TRUE; Stackable: No; Mounting Technology: Surface Mount; ComponentLink1Description: Manufacturer URL; ComponentLink1URL: http://www.molex.com/molex/index.jsp; ComponentLink2Description: Datasheet; ComponentLink2URL: http://www.molex.com/webdocs/datasheets/pdf/en-us/0528082770_FFC_FPC_CONNECTORS.pdf; ComponentLink3Description: Package Specification; ComponentLink3URL: http://www.molex.com/pdm_docs/sd/528082770_sd.pdf
footprint MOLX-52808-2770 (FFC Connector, 27-Leads, Vertical, Pitch 1.0 mm, Mated Height 5.05 mm, SMT)
pins: 1, 2, 3, 4, 5, 6, 7, 8, 9, 10, 11, 12, 13, 14, 15, 16, 17, 18, 19, 20, 21, 22, 23, 24, 25, 26, 27

## 52808-2870
designator J?
1.0 mm Pitch Easy-On(TM) Type FFC Connector, 5.05 mm Mated Height, Vertical, Non-ZIF, SMT, 28 Circuits, -20 to 80 degC, ELV and RoHS Compliant, Tape and Reel; Manufacturer: Molex; PartNumber: 52808-2870; Circuits (Loaded): 28; Current (Max per Contact): 0.5A; Durability (mating cycles max): 10; Mated Height: 5.05mm; Material - Metal: Phosphor Bronze; Material - Plating Mating: Tin-Bismuth; PCB Locator: No; PCB Retention: None; Pitch - Mating Interface: 1.00mm; Voltage (Max): 125V AC (RMS)/DC; PackageVersion: Rev. B, 01/2014; PackageReference: 52808-2870; PackageDescription: 28-Lead FFC Connector, Pitch 1.0 mm; Circuits (maximum): 28; Contact Position: N/A; Entry Angle: Vertical; Material - Plating Termination: Tin-Bismuth; Number of Rows: 1; Orientation: Vertical; Packing: Tape and Reel; Pitch - Termination Interface: 1.00mm; Polarized to PCB: No; RoHS: TRUE; Stackable: No; Mounting Technology: Surface Mount; ComponentLink1Description: Manufacturer URL; ComponentLink1URL: http://www.molex.com/molex/index.jsp; ComponentLink2Description: Datasheet; ComponentLink2URL: http://www.molex.com/webdocs/datasheets/pdf/en-us/0528082870_FFC_FPC_CONNECTORS.pdf; ComponentLink3Description: Package Specification; ComponentLink3URL: http://www.molex.com/pdm_docs/sd/528082870_sd.pdf
footprint MOLX-52808-2870 (FFC Connector, 28-Leads, Vertical, Pitch 1.0 mm, Mated Height 5.05 mm, SMT)
pins: 1, 2, 3, 4, 5, 6, 7, 8, 9, 10, 11, 12, 13, 14, 15, 16, 17, 18, 19, 20, 21, 22, 23, 24, 25, 26, 27, 28

## 52808-2970
designator J?
1.0 mm Pitch Easy-On(TM) Type FFC Connector, 5.05 mm Mated Height, Vertical, Non-ZIF, SMT, 29 Circuits, -20 to 80 degC, ELV and RoHS Compliant, Tape and Reel; Manufacturer: Molex; PartNumber: 52808-2970; Circuits (Loaded): 29; Current (Max per Contact): 0.5A; Durability (mating cycles max): 10; Mated Height: 5.05mm; Material - Metal: Phosphor Bronze; Material - Plating Mating: Tin-Bismuth; PCB Locator: No; PCB Retention: None; Pitch - Mating Interface: 1.00mm; Voltage (Max): 125V AC (RMS)/DC; PackageVersion: Rev. B, 01/2014; PackageReference: 52808-2970; PackageDescription: 29-Lead FFC Connector, Pitch 1.0 mm; Circuits (maximum): 29; Contact Position: N/A; Entry Angle: Vertical; Material - Plating Termination: Tin-Bismuth; Number of Rows: 1; Orientation: Vertical; Packing: Tape and Reel; Pitch - Termination Interface: 1.00mm; Polarized to PCB: No; RoHS: TRUE; Stackable: No; Mounting Technology: Surface Mount; ComponentLink1Description: Manufacturer URL; ComponentLink1URL: http://www.molex.com/molex/index.jsp; ComponentLink2Description: Datasheet; ComponentLink2URL: http://www.molex.com/webdocs/datasheets/pdf/en-us/0528082970_FFC_FPC_CONNECTORS.pdf; ComponentLink3Description: Package Specification; ComponentLink3URL: http://www.molex.com/pdm_docs/sd/528082970_sd.pdf
footprint MOLX-52808-2970 (FFC Connector, 29-Leads, Vertical, Pitch 1.0 mm, Mated Height 5.05 mm, SMT)
pins: 1, 2, 3, 4, 5, 6, 7, 8, 9, 10, 11, 12, 13, 14, 15, 16, 17, 18, 19, 20, 21, 22, 23, 24, 25, 26, 27, 28, 29

## 52808-3070
designator J?
1.0 mm Pitch Easy-On(TM) Type FFC Connector, 5.05 mm Mated Height, Vertical, Non-ZIF, SMT, 30 Circuits, -20 to 80 degC, ELV and RoHS Compliant, Tape and Reel; Manufacturer: Molex; PartNumber: 52808-3070; Circuits (Loaded): 30; Current (Max per Contact): 0.5A; Durability (mating cycles max): 10; Mated Height: 5.05mm; Material - Metal: Phosphor Bronze; Material - Plating Mating: Tin-Bismuth; PCB Locator: No; PCB Retention: None; Pitch - Mating Interface: 1.00mm; Voltage (Max): 125V AC (RMS)/DC; PackageVersion: Rev. B, 01/2014; PackageReference: 52808-3070; PackageDescription: 30-Lead FFC Connector, Pitch 1.0 mm; Circuits (maximum): 30; Contact Position: N/A; Entry Angle: Vertical; Material - Plating Termination: Tin-Bismuth; Number of Rows: 1; Orientation: Vertical; Packing: Tape and Reel; Pitch - Termination Interface: 1.00mm; Polarized to PCB: No; RoHS: TRUE; Stackable: No; Mounting Technology: Surface Mount; ComponentLink1Description: Manufacturer URL; ComponentLink1URL: http://www.molex.com/molex/index.jsp; ComponentLink2Description: Datasheet; ComponentLink2URL: http://www.molex.com/webdocs/datasheets/pdf/en-us/0528083070_FFC_FPC_CONNECTORS.pdf; ComponentLink3Description: Package Specification; ComponentLink3URL: http://www.molex.com/pdm_docs/sd/528083070_sd.pdf
footprint MOLX-52808-3070 (FFC Connector, 30-Leads, Vertical, Pitch 1.0 mm, Mated Height 5.05 mm, SMT)
pins: 1, 2, 3, 4, 5, 6, 7, 8, 9, 10, 11, 12, 13, 14, 15, 16, 17, 18, 19, 20, 21, 22, 23, 24, 25, 26, 27, 28, 29, 30

## 52852-0470
designator J?
1.0 mm Pitch Easy-On(TM) Type FFC Connector, 3.1 mm Mated Height, Right Angle, Non-ZIF, SMT, Bottom Contact, 4 Circuits, -20 to 80 degC, ELV and RoHS Compliant, Tape and Reel; Manufacturer: Molex; PartNumber: 52852-0470; Circuits (Loaded): 4; Current (Max per Contact): 0.5A; Durability (mating cycles max): 10; Entry Angle: 90degrees Angle; Mated Height: 3.10mm; Material - Metal: Phosphor Bronze; Material - Plating Mating: Tin-Bismuth; PCB Locator: No; PCB Retention: Yes; Pitch - Mating Interface: 1.00mm; Voltage (Max): 50V AC (RMS)/DC; PackageVersion: Rev. A, 11/2004; PackageReference: 52852-0470; PackageDescription: 4-Lead FFC Connector, Pitch 1.0 mm; Circuits (maximum): 4; Contact Position: Bottom; Material - Plating Termination: Tin-Bismuth; Number of Rows: 1; Orientation: Right Angle; Packing: Tape and Reel; Pitch - Termination Interface: 1.00mm; Polarized to PCB: No; RoHS: TRUE; Stackable: No; Mounting Technology: Surface Mount; ComponentLink1Description: Manufacturer URL; ComponentLink1URL: http://www.molex.com/molex/index.jsp; ComponentLink2Description: Datasheet; ComponentLink2URL: http://www.molex.com/webdocs/datasheets/pdf/en-us/0528520470_FFC_FPC_CONNECTORS.pdf; ComponentLink3Description: Package Specification; ComponentLink3URL: http://www.molex.com/pdm_docs/sd/528520470_sd.pdf
footprint MOLX-52852-0470 (FFC Connector, 4-Leads, Right Angle, Pitch 1.0 mm, Mated Height 3.1 mm, SMT)
pins: 1, 2, 3, 4, MP1, MP2

## 52852-0570
designator J?
1.0 mm Pitch Easy-On(TM) Type FFC Connector, 3.1 mm Mated Height, Right Angle, Non-ZIF, SMT, Bottom Contact, 5 Circuits, -20 to 80 degC, ELV and RoHS Compliant, Tape and Reel; Manufacturer: Molex; PartNumber: 52852-0570; Circuits (Loaded): 5; Current (Max per Contact): 0.5A; Durability (mating cycles max): 10; Entry Angle: 90degrees Angle; Mated Height: 3.10mm; Material - Metal: Phosphor Bronze; PCB Locator: No; PCB Retention: Yes; Pitch - Mating Interface: 1.00mm; Voltage (Max): 50V AC (RMS)/DC; PackageVersion: Rev. A, 11/2004; PackageReference: 52852-0570; PackageDescription: 5-Lead FFC Connector, Pitch 1.0 mm; Circuits (maximum): 5; Contact Position: Bottom; Number of Rows: 1; Orientation: Right Angle; Packing: Tape and Reel; Pitch - Termination Interface: 1.00mm; Polarized to PCB: No; RoHS: TRUE; Stackable: No; Mounting Technology: Surface Mount; ComponentLink1Description: Manufacturer URL; ComponentLink1URL: http://www.molex.com/molex/index.jsp; ComponentLink2Description: Datasheet; ComponentLink2URL: http://www.molex.com/webdocs/datasheets/pdf/en-us/0528520570_FFC_FPC_CONNECTORS.pdf; ComponentLink3Description: Package Specification; ComponentLink3URL: http://www.molex.com/pdm_docs/sd/528520570_sd.pdf
footprint MOLX-52852-0570 (FFC Connector, 5-Leads, Right Angle, Pitch 1.0 mm, Mated Height 3.1 mm, SMT)
pins: 1, 2, 3, 4, 5, MP1, MP2

## 52852-0670
designator J?
1.0 mm Pitch Easy-On(TM) Type FFC Connector, 3.1 mm Mated Height, Right Angle, Non-ZIF, SMT, Bottom Contact, 6 Circuits, -20 to 80 degC, ELV and RoHS Compliant, Tape and Reel; Manufacturer: Molex; PartNumber: 52852-0670; Circuits (Loaded): 6; Current (Max per Contact): 0.5A; Durability (mating cycles max): 10; Entry Angle: 90degrees Angle; Mated Height: 3.10mm; Material - Metal: Phosphor Bronze; Material - Plating Mating: Tin-Bismuth; PCB Locator: No; PCB Retention: Yes; Pitch - Mating Interface: 1.00mm; Voltage (Max): 50V AC (RMS)/DC; PackageVersion: Rev. A, 11/2004; PackageReference: 52852-0670; PackageDescription: 6-Lead FFC Connector, Pitch 1.0 mm; Circuits (maximum): 6; Contact Position: Bottom; Material - Plating Termination: Tin-Bismuth; Number of Rows: 1; Orientation: Right Angle; Packing: Tape and Reel; Pitch - Termination Interface: 1.00mm; Polarized to PCB: No; RoHS: TRUE; Stackable: No; Mounting Technology: Surface Mount; ComponentLink1Description: Manufacturer URL; ComponentLink1URL: http://www.molex.com/molex/index.jsp; ComponentLink2Description: Datasheet; ComponentLink2URL: http://www.molex.com/webdocs/datasheets/pdf/en-us/0528520670_FFC_FPC_CONNECTORS.pdf; ComponentLink3Description: Package Specification; ComponentLink3URL: http://www.molex.com/pdm_docs/sd/528520670_sd.pdf
footprint MOLX-52852-0670 (FFC Connector, 6-Leads, Right Angle, Pitch 1.0 mm, Mated Height 3.1 mm, SMT)
pins: 1, 2, 3, 4, 5, 6, MP1, MP2

## 52852-0770
designator J?
1.0 mm Pitch Easy-On(TM) Type FFC Connector, 3.1 mm Mated Height, Right Angle, Non-ZIF, SMT, Bottom Contact, 7 Circuits, -20 to 80 degC, ELV and RoHS Compliant, Tape and Reel; Manufacturer: Molex; PartNumber: 52852-0770; Circuits (Loaded): 7; Current (Max per Contact): 0.5A; Durability (mating cycles max): 10; Entry Angle: 90degrees Angle; Mated Height: 3.10mm; Material - Metal: Phosphor Bronze; Material - Plating Mating: Tin-Bismuth; PCB Locator: No; PCB Retention: Yes; Pitch - Mating Interface: 1.00mm; Voltage (Max): 50V AC (RMS)/DC; PackageVersion: Rev. A, 11/2004; PackageReference: 52852-0770; PackageDescription: 7-Lead FFC Connector, Pitch 1.0 mm; Circuits (maximum): 7; Contact Position: Bottom; Material - Plating Termination: Tin-Bismuth; Number of Rows: 1; Orientation: Right Angle; Packing: Tape and Reel; Pitch - Termination Interface: 1.00mm; Polarized to PCB: No; RoHS: TRUE; Stackable: No; Mounting Technology: Surface Mount; ComponentLink1Description: Manufacturer URL; ComponentLink1URL: http://www.molex.com/molex/index.jsp; ComponentLink2Description: Datasheet; ComponentLink2URL: http://www.molex.com/webdocs/datasheets/pdf/en-us/0528520770_FFC_FPC_CONNECTORS.pdf; ComponentLink3Description: Package Specification; ComponentLink3URL: http://www.molex.com/pdm_docs/sd/528520770_sd.pdf
footprint MOLX-52852-0770 (FFC Connector, 7-Leads, Right Angle, Pitch 1.0 mm, Mated Height 3.1 mm, SMT)
pins: 1, 2, 3, 4, 5, 6, 7, MP1, MP2

## 52852-0870
designator J?
1.0 mm Pitch Easy-On(TM) Type FFC Connector, 3.1 mm Mated Height, Right Angle, Non-ZIF, SMT, Bottom Contact, 8 Circuits, -20 to 80 degC, ELV and RoHS Compliant, Tape and Reel; Manufacturer: Molex; PartNumber: 52852-0870; Circuits (Loaded): 8; Current (Max per Contact): 0.5A; Durability (mating cycles max): 10; Entry Angle: 90degrees Angle; Mated Height: 3.10mm; Material - Metal: Phosphor Bronze; Material - Plating Mating: Tin-Bismuth; PCB Locator: No; PCB Retention: Yes; Pitch - Mating Interface: 1.00mm; Voltage (Max): 50V AC (RMS)/DC; PackageVersion: Rev. A, 11/2004; PackageReference: 52852-0870; PackageDescription: 8-Lead FFC Connector, Pitch 1.0 mm; Circuits (maximum): 8; Contact Position: Bottom; Material - Plating Termination: Tin-Bismuth; Number of Rows: 1; Orientation: Right Angle; Packing: Tape and Reel; Pitch - Termination Interface: 1.00mm; Polarized to PCB: No; RoHS: TRUE; Stackable: No; Mounting Technology: Surface Mount; ComponentLink1Description: Manufacturer URL; ComponentLink1URL: http://www.molex.com/molex/index.jsp; ComponentLink2Description: Datasheet; ComponentLink2URL: http://www.molex.com/webdocs/datasheets/pdf/en-us/0528520870_FFC_FPC_CONNECTORS.pdf; ComponentLink3Description: Package Specification; ComponentLink3URL: http://www.molex.com/pdm_docs/sd/528520870_sd.pdf
footprint MOLX-52852-0870 (FFC Connector, 8-Leads, Right Angle, Pitch 1.0 mm, Mated Height 3.1 mm, SMT)
pins: 1, 2, 3, 4, 5, 6, 7, 8, MP1, MP2

## 52852-0970
designator J?
1.0 mm Pitch Easy-On(TM) Type FFC Connector, 3.1 mm Mated Height, Right Angle, Non-ZIF, SMT, Bottom Contact, 9 Circuits, -20 to 80 degC, ELV and RoHS Compliant, Tape and Reel; Manufacturer: Molex; PartNumber: 52852-0970; Circuits (Loaded): 9; Current (Max per Contact): 0.5A; Durability (mating cycles max): 10; Entry Angle: 90degrees Angle; Mated Height: 3.10mm; Material - Metal: Phosphor Bronze; PCB Locator: No; PCB Retention: Yes; Pitch - Mating Interface: 1.00mm; Voltage (Max): 50V AC (RMS)/DC; PackageVersion: Rev. A, 11/2004; PackageReference: 52852-0970; PackageDescription: 9-Lead FFC Connector, Pitch 1.0 mm; Circuits (maximum): 9; Contact Position: Bottom; Number of Rows: 1; Orientation: Right Angle; Packing: Tape and Reel; Pitch - Termination Interface: 1.00mm; Polarized to PCB: No; RoHS: TRUE; Stackable: No; Mounting Technology: Surface Mount; ComponentLink1Description: Manufacturer URL; ComponentLink1URL: http://www.molex.com/molex/index.jsp; ComponentLink2Description: Datasheet; ComponentLink2URL: http://www.molex.com/webdocs/datasheets/pdf/en-us/0528520970_FFC_FPC_CONNECTORS.pdf; ComponentLink3Description: Package Specification; ComponentLink3URL: http://www.molex.com/pdm_docs/sd/528520970_sd.pdf
footprint MOLX-52852-0970 (FFC Connector, 9-Leads, Right Angle, Pitch 1.0 mm, Mated Height 3.1 mm, SMT)
pins: 1, 2, 3, 4, 5, 6, 7, 8, 9, MP1, MP2

## 52852-1070
designator J?
1.0 mm Pitch Easy-On(TM) Type FFC Connector, 3.1 mm Mated Height, Right Angle, Non-ZIF, SMT, Bottom Contact, 10 Circuits, -20 to 80 degC, ELV and RoHS Compliant, Tape and Reel; Manufacturer: Molex; PartNumber: 52852-1070; Circuits (Loaded): 10; Current (Max per Contact): 0.5A; Entry Angle: 90degrees Angle; Mated Height: 3.10mm; Material - Metal: Phosphor Bronze; Material - Plating Mating: Tin-Bismuth; PCB Locator: No; PCB Retention: Yes; Pitch - Mating Interface: 1.00mm; Voltage (Max): 50V AC (RMS)/DC; PackageVersion: Rev. A, 11/2004; PackageReference: 52852-1070; PackageDescription: 10-Lead FFC Connector, Pitch 1.0 mm; Circuits (maximum): 10; Contact Position: Bottom; Durability (mating cycles max): 10; Material - Plating Termination: Tin-Bismuth; Number of Rows: 1; Orientation: Right Angle; Packing: Tape and Reel; Pitch - Termination Interface: 1.00mm; Polarized to PCB: No; RoHS: TRUE; Stackable: No; Mounting Technology: Surface Mount; ComponentLink1Description: Manufacturer URL; ComponentLink1URL: http://www.molex.com/molex/index.jsp; ComponentLink2Description: Datasheet; ComponentLink2URL: http://www.molex.com/webdocs/datasheets/pdf/en-us/0528521070_FFC_FPC_CONNECTORS.pdf; ComponentLink3Description: Package Specification; ComponentLink3URL: http://www.molex.com/pdm_docs/sd/528521070_sd.pdf
footprint MOLX-52852-1070 (FFC Connector, 10-Leads, Right Angle, Pitch 1.0 mm, Mated Height 3.1 mm, SMT)
pins: 1, 2, 3, 4, 5, 6, 7, 8, 9, 10, MP1, MP2